# Altium schematic symbol library PIC12F1572.Schlib: 1 symbol
Pins are listed as number, name and electrical type; pins without a type are passive.

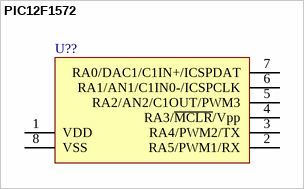
[diagram p0: symbol PIC12F1572]

## PIC12F1572
designator U??
pins: 1 VDD, 2 RA5/PWM1/RX (power), 3 RA4/PWM2/TX, 4 RA3/~{MCLR}/Vpp, 5 RA2/AN2/C1OUT/PWM3, 6 RA1/AN1/C1IN0-/ICSPCLK, 7 RA0/DAC1/C1IN+/ICSPDAT, 8 VSS (power)